# Altium footprint library comp.PcbLib: 14 footprints
Each footprint in its own frame and in the unit in brackets; x right, y up, seen from the top. Pads: shape width x height; smd on the part's side, far side on the other; paste and mask are expansions set on the pad; w line width, h text height; cw(c..) or ccw(c..) is an arc to the next point about the centre after c.
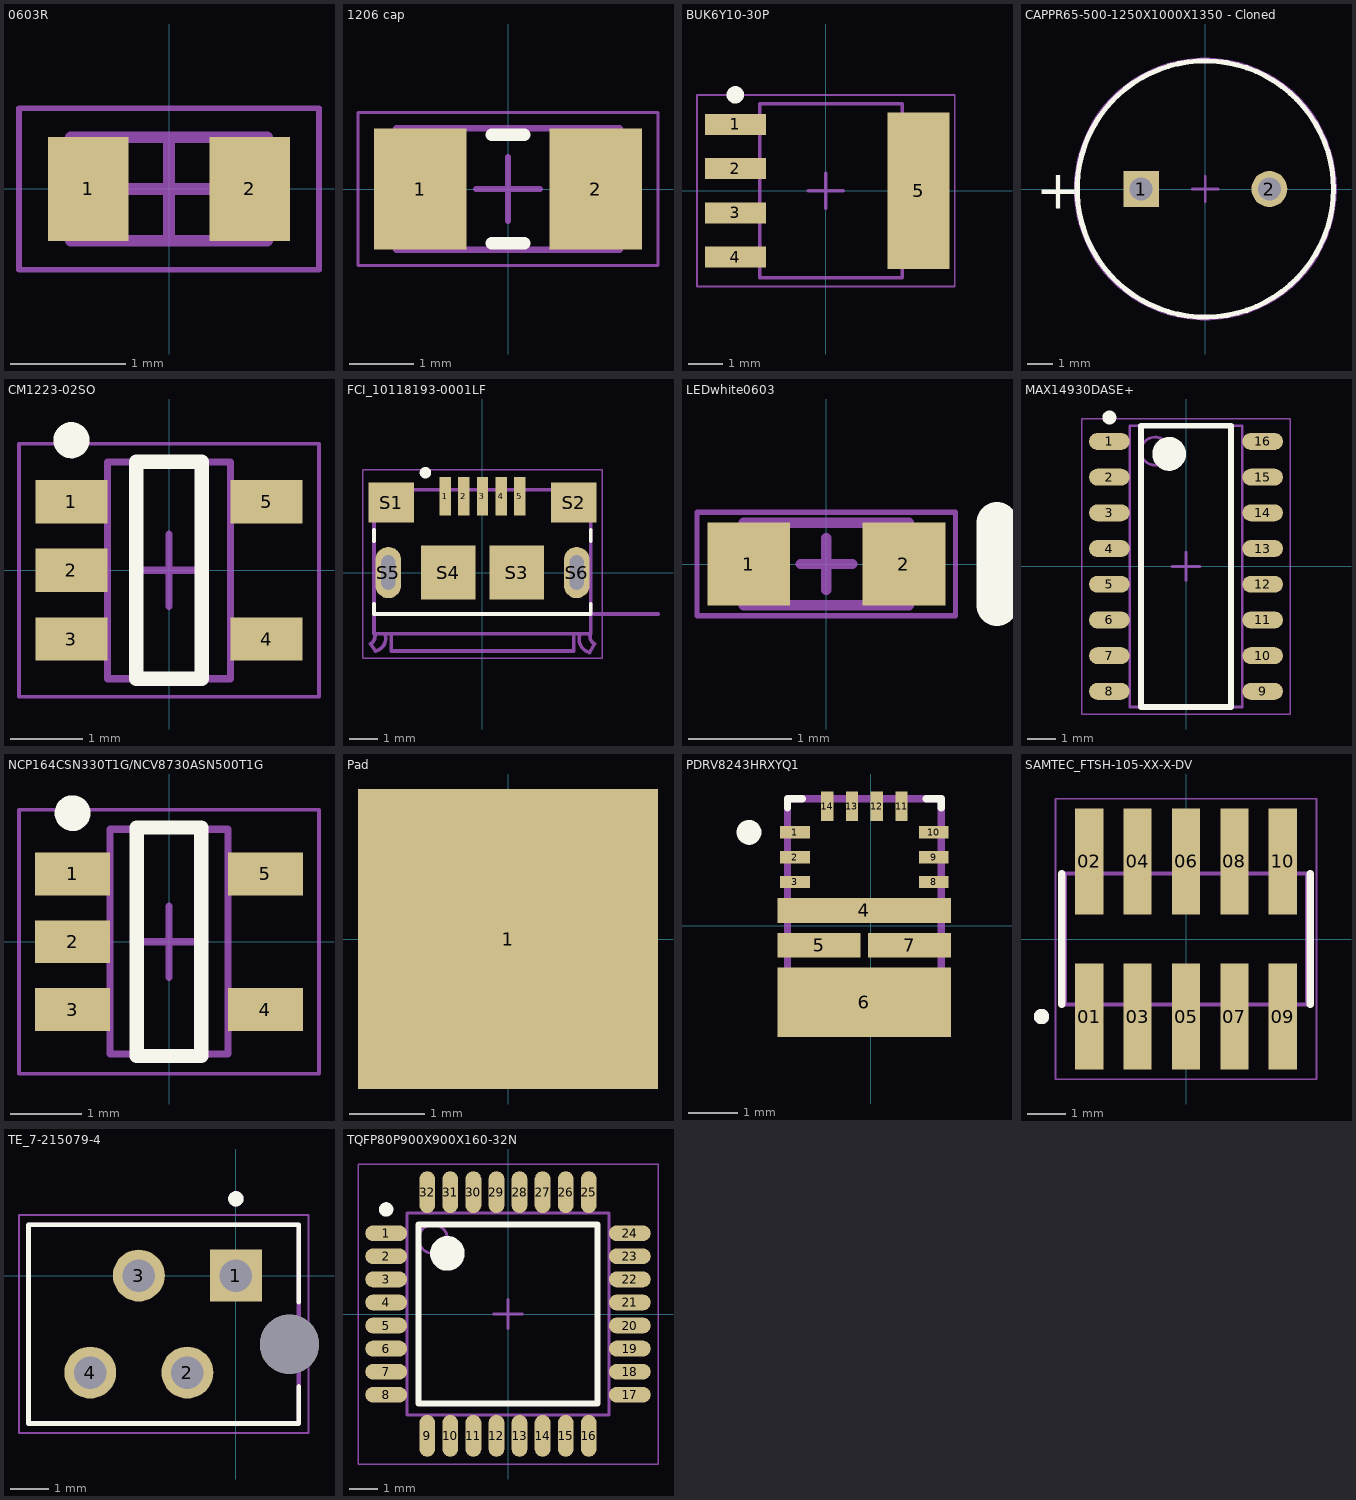
[diagram p0: the footprints below, top view; thin cyan lines are the x and y axes]

## 0603R [mm]
pads (2):
  rect 0.7x0.9 smd: 1(-0.7,0) 2(0.7,0)
Mechanical 13:
  lines w0.1: -0.85,-0.45 0.85,-0.45 0.85,0.45 -0.85,0.45 -0.85,-0.45
Mechanical 15:
  lines w0.05: -1.3,-0.7 1.3,-0.7 1.3,0.7 -1.3,0.7 -1.3,-0.7
  lines w0.1: -0.45,0 0.45,0 ; 0,-0.45 0,0.45
3D body "RESC1608X06N.step": height 0.55, standoff 0, extent -0.85,-0.45 0.85,0.45

## 1206 cap [mm] "Chip Capacitor, 2-Leads, Body 3.5x1.9mm, IPC Medium Density"
height 1.9
pads (2):
  rect 1.45x1.9 smd: 1(-1.375,0) 2(1.375,0)
Top Overlay:
  lines w0.2: -0.25,-0.85 0.25,-0.85 ; -0.25,0.85 0.25,0.85
Mechanical 13:
  lines w0.1: -1.75,-0.95 1.75,-0.95 1.75,0.95 -1.75,0.95 -1.75,-0.95
Mechanical 15:
  lines w0.05: -2.35,-1.2 2.35,-1.2 2.35,1.2 -2.35,1.2 -2.35,-1.2
  lines w0.1: -0.5,0 0.5,0 ; 0,-0.5 0,0.5
3D body "CAPC3216X19N.step": height 1.9, standoff 0, extent -1.75,-0.95 1.75,0.95

## BUK6Y10-30P [mm] "TO, 5-Pads, Body 5,15x5,86mm (max), IPC Medium Density"
height 1.2
pads (5):
  rect 1.75x0.6 smd: 1(-2.6,1.905) 2(-2.6,0.635) 3(-2.6,-0.635) 4(-2.6,-1.905)
  rect 1.78x4.5 smd: 5(2.667,0)
Top Overlay:
  circle w0.25: c-2.6,2.755 r0.125
Top Assembly:
  lines w0.1: -1.9,-2.5 2.2,-2.5 2.2,2.5 -1.9,2.5 -1.9,-2.5
Top Courtyard:
  lines w0.05: -3.7,-2.75 3.7,-2.75 3.7,2.75 -3.7,2.75 -3.7,-2.75
  lines w0.1: -0.5,0 0.5,0 ; 0,-0.5 0,0.5
3D body "SOT669.step": height 0.75, standoff -0.25, extent -3.068,-2.405 3.042,2.405

## CAPPR65-500-1250X1000X1350 - Cloned [mm] "THD, 2-Leads, Dia 10mm, Body Length 12.5mm"
height 13.5
pads (2):
  rect 1.4x1.4 hole 0.9: 1(-2.5,0)
  round 1.4 hole 0.9: 2(2.5,0)
Top Overlay:
  circle w0.2: c0,0 r5
  text "+" at -6.604,-0.762 h1.5
Mechanical 13:
  circle w0.1: c0,0 r5
Mechanical 15:
  circle w0.05: c0,0 r5.1
  lines w0.1: -0.5,0 0.5,0 ; 0,-0.5 0,0.5
3D body: height 0, standoff -14, extent 2.202,-0.299 2.8,0.3
3D body: height 0, standoff -17, extent -2.797,-0.299 -2.2,0.3
3D body: height 13.5, standoff 0, extent -4.499,-4.499 4.499,4.499
3D body: height 13.49, standoff 0.01, extent -4.949,-4.949 4.949,4.949
3D body: height 13.5, standoff 0, extent -4.999,-4.999 4.835,4.999

## CM1223-02SO [mm] "diode array"
height 1.45
pads (5):
  rect 1x0.6 smd: 1(-1.35,0.95) 2(-1.35,0) 3(-1.35,-0.95) 4(1.35,-0.95) 5(1.35,0.95)
Top Overlay:
  circle w0.25: c-1.35,1.8 r0.125
  lines w0.2: -0.45,-1.5 -0.45,1.5 0.45,1.5 0.45,-1.5 -0.45,-1.5
Mechanical 13:
  lines w0.1: -0.85,-1.5 0.85,-1.5 0.85,1.5 -0.85,1.5 -0.85,-1.5
Mechanical 15:
  lines w0.05: -2.075,-1.75 2.075,-1.75 2.075,1.75 -2.075,1.75 -2.075,-1.75
  lines w0.1: -0.5,0 0.5,0 ; 0,-0.5 0,0.5
3D body "SOT95P280X145-5N.step": height 1.45, standoff 0, extent -1.45,-1.5 1.45,1.5

## FCI_10118193-0001LF [mm]
pads (13):
  rect 0.4x1.35 smd: 1(-1.3,2.675) 2(-0.65,2.675) 3(0,2.675) 4(0.65,2.675) 5(1.3,2.675)
  rect 1.6x1.4 smd: S1(-3.2,2.45) S2(3.2,2.45)
  rect 1.9x1.9 smd: S3(1.2,0) S4(-1.2,0)
  oval 0.9x1.8 hole 0.5 slot 1.2 at 90 deg: S5(-3.3,0) S6(3.3,0)
  round 0.5 hole 0.5 unplated: ""(-3.3,0) ""(3.3,0)
Top Overlay:
  circle w0.2: c-2,3.5 r0.1
  lines w0.127: -3.8,-1.45 3.8,-1.45 ; -3.8,-1.4 -3.8,-1.1 ; -3.8,1.1 -3.8,1.5 ; 3.8,-1.4 3.8,-1.1 ; 3.8,1.1 3.8,1.5
Mechanical 13:
  lines w0.127: -3.93,-2.5 -3.75,-2.75 ; -3.93,-2.5 ccw(c-4.065,-2.235) -3.8,-2.1 ; -3.746,-2.749 ccw(c-3.85,-2.3) -3.401,-2.196 ; -3.2,-2.2 -3.2,-2.75 3.2,-2.75 3.2,-2.2 ; 3.401,-2.198 ccw(c3.875,-2.325) 3.748,-2.799 ; 3.75,-2.8 3.93,-2.5 ; 3.8,-2.1 ccw(c4.065,-2.235) 3.93,-2.5 ; 6.15,-1.45 3.8,-1.45 ; -3.8,-2.1 -3.8,-2.15 3.8,-2.15 3.8,-1.45 ; -3.8,-2.1 -3.8,2.9 3.8,2.9 3.8,-1.45
  text "PCB END" at 4.75,-1.3 h0.41
Mechanical 15:
  lines w0.05: -4.2,-3 -4.2,3.6 4.2,3.6 4.2,-3 -4.2,-3

## LEDwhite0603 [mm]
pads (2):
  rect 0.8x0.8 smd: 1(-0.75,0) 2(0.75,0)
Top Overlay:
  lines w0.4: 1.65,-0.4 1.65,0.4
Mechanical 13:
  lines w0.1: -0.55,-0.4 -0.55,0.4 ; 0.55,-0.4 0.55,0.4 ; -0.8,-0.4 0.8,-0.4 0.8,0.4 -0.8,0.4 -0.8,-0.4
Mechanical 15:
  lines w0.05: -1.25,-0.5 -1.25,0.5 1.25,0.5 1.25,-0.5 -1.25,-0.5
  lines w0.1: -0.25,0 0.25,0 ; 0,-0.25 0,0.25
3D body: height 0.28, standoff 0, extent -0.8,-0.4 0.8,0.4
3D body: height 0.65, standoff 0.28, extent -0.55,-0.4 0.55,0.4

## MAX14930DASE+ [mm] "SOIC, 16-Leads, Body 9,90x3,90mm, Pitch 1,27mm, IPC Medium Density"
height 1.75
pads (16):
  oval 1.45x0.6 smd: 1(-2.725,4.445) 2(-2.725,3.175) 3(-2.725,1.905) 4(-2.725,0.635) 5(-2.725,-0.635) 6(-2.725,-1.905) 7(-2.725,-3.175) 8(-2.725,-4.445) 9(2.725,-4.445) 10(2.725,-3.175) 11(2.725,-1.905) 12(2.725,-0.635) 13(2.725,0.635) 14(2.725,1.905) 15(2.725,3.175) 16(2.725,4.445)
Top Overlay:
  circle w0.6: c-0.6,4 r0.3
  circle w0.25: c-2.725,5.295 r0.125
  lines w0.2: -1.6,-5 1.6,-5 1.6,5 -1.6,5 -1.6,-5
Mechanical 13:
  circle w0.1: c-1.1,4.1 r0.5
  lines w0.1: -2,-5 2,-5 2,5 -2,5 -2,-5
Mechanical 15:
  lines w0.05: -3.7,-5.25 3.7,-5.25 3.7,5.25 -3.7,5.25 -3.7,-5.25
  lines w0.1: -0.5,0 0.5,0 ; 0,-0.5 0,0.5
3D body "MAX14930DASE+.step": height 1.75, standoff 0, extent -3,-5 3,5

## NCP164CSN330T1G/NCV8730ASN500T1G [mm] "voltage regulators"
height 1.1
pads (5):
  rect 1.05x0.6 smd: 1(-1.35,0.95) 2(-1.35,0) 3(-1.35,-0.95) 4(1.35,-0.95) 5(1.35,0.95)
Top Overlay:
  circle w0.25: c-1.35,1.8 r0.125
  lines w0.2: -0.45,-1.6 -0.45,1.6 0.45,1.6 0.45,-1.6 -0.45,-1.6
Mechanical 13:
  lines w0.1: -0.825,-1.575 0.825,-1.575 0.825,1.575 -0.825,1.575 -0.825,-1.575
Mechanical 15:
  lines w0.05: -2.1,-1.85 2.1,-1.85 2.1,1.85 -2.1,1.85 -2.1,-1.85
  lines w0.1: -0.5,0 0.5,0 ; 0,-0.5 0,0.5
3D body "SOT95P275X110-5N.step": height 1.1, standoff 0, extent -1.5,-1.575 1.5,1.575

## Pad [mm]
pads (1):
  rect 4x4 smd: 1(0,0)

## PDRV8243HRXYQ1 [mm]
pads (14):
  rect 0.6x0.25 smd paste+0 mask-0.292: 1(-1.527,1.879) 2(-1.527,1.379) 3(-1.527,0.879) 8(1.273,0.879) 9(1.273,1.379) 10(1.273,1.879)
  rect 3.5x0.5 smd paste-1.737 mask-1.74: 4(-0.127,0.304)
  rect 1.675x0.5 smd paste-0.825 mask-0.826: 5(-1.04,-0.396) 7(0.786,-0.396)
  rect 3.5x1.4 smd paste-1.737 mask-1.74: 6(-0.127,-1.546)
  rect 0.25x0.6 smd paste+0 mask-0.292: 11(0.623,2.404) 12(0.123,2.404) 13(-0.377,2.404) 14(-0.877,2.404)
Top Overlay:
  circle w0.25: c-2.452,1.879 r0.125
  lines w0.15: -1.677,2.379 -1.677,2.554 -1.377,2.554 ; 1.123,2.554 1.423,2.554 1.423,2.379
Top Paste:
  region: -1.827,0.229 -1.827,0.379 -1.777,0.429 -1.477,0.429 -1.477,0.504 -0.302,0.504 -0.252,0.454 -0.252,0.154 -0.302,0.104 -1.477,0.104 -1.477,0.179 -1.777,0.179
  region: 1.573,0.379 1.573,0.229 1.523,0.179 1.223,0.179 1.223,0.104 0.048,0.104 -0.002,0.154 -0.002,0.454 0.048,0.504 1.223,0.504 1.223,0.429 1.523,0.429
  region: -1.777,-0.521 -1.827,-0.471 -1.827,-0.321 -1.777,-0.271 -1.477,-0.271 -1.477,-0.196 -0.302,-0.196 -0.252,-0.246 -0.252,-0.546 -0.302,-0.596 -1.477,-0.596 -1.477,-0.521
  region: 1.523,-0.271 1.573,-0.321 1.573,-0.471 1.523,-0.521 1.223,-0.521 1.223,-0.596 0.048,-0.596 -0.002,-0.546 -0.002,-0.246 0.048,-0.196 1.223,-0.196 1.223,-0.271
  region: -1.777,-1.221 -1.827,-1.171 -1.827,-1.021 -1.777,-0.971 -1.477,-0.971 -1.477,-0.896 1.223,-0.896 1.223,-0.971 1.523,-0.971 1.573,-1.021 1.573,-1.171 1.523,-1.221 1.223,-1.221 1.223,-1.296 0.748,-1.296 0.748,-2.146 0.698,-2.196 0.548,-2.196 0.498,-2.146 0.498,-1.296 0.248,-1.296 0.248,-2.146 0.198,-2.196 0.048,-2.196 -0.002,-2.146 -0.002,-1.296 -0.252,-1.296 -0.252,-2.146 -0.302,-2.196 -0.452,-2.196 -0.502,-2.146 -0.502,-1.296 -0.752,-1.296 -0.752,-2.146 -0.802,-2.196 -0.952,-2.196 -1.002,-2.146 -1.002,-1.296 -1.477,-1.296 -1.477,-1.221
Top Solder:
  drawing of 15 lines, arcs and shapes, not listed
Mechanical 13:
  lines w0.15: -1.677,-2.046 1.423,-2.046 1.423,2.554 -1.677,2.554 -1.677,-2.046

## SAMTEC_FTSH-105-XX-X-DV [mm]
pads (10):
  rect 0.74x2.79 smd: 01(-2.54,-2.035) 02(-2.54,2.035) 03(-1.27,-2.035) 04(-1.27,2.035) 05(0,-2.035) 06(0,2.035) 07(1.27,-2.035) 08(1.27,2.035) 09(2.54,-2.035) 10(2.54,2.035)
Top Overlay:
  circle w0.2: c-3.79,-2.035 r0.1
  lines w0.2: -3.26,-1.715 -3.26,1.715 ; 3.26,-1.715 3.26,1.715
Mechanical 13:
  circle w0.2: c-3.79,-2.035 r0.1
  lines w0.1: -3.175,-1.715 -3.175,1.715 3.175,1.715 3.175,-1.715 -3.175,-1.715
Mechanical 15:
  lines w0.05: -3.425,-3.68 -3.425,3.68 3.425,3.68 3.425,-3.68 -3.425,-3.68
3D body "FTSH-105-01-L-DV-K.stp": height 5.71, standoff -0.41, extent -3.175,-2.794 3.175,3.048

## TE_7-215079-4 [mm]
pads (5):
  rect 1.358x1.358 hole 0.85: 1(0,0)
  round 1.358 hole 0.85: 2(-1.27,-2.54) 3(-2.54,0) 4(-3.81,-2.54)
  round 1.55 hole 1.55 unplated: ""(1.4,-1.8)
Top Overlay:
  circle w0.2: c0,2.008 r0.1
  lines w0.127: 1.645,-2.9 1.645,-3.87 -5.425,-3.87 -5.425,1.33 1.645,1.33 1.645,-0.7
Mechanical 13:
  circle w0.2: c0,2.008 r0.1
  lines w0.127: -5.425,-3.87 -5.425,1.33 1.645,1.33 1.645,-3.87 -5.425,-3.87
Mechanical 15:
  lines w0.05: -5.675,-4.12 -5.675,1.58 1.895,1.58 1.895,-4.12 -5.675,-4.12

## TQFP80P900X900X160-32N [mm] "TQFP, 32-Leads, Body 7,00x7,00mm, Pitch 0,80mm, IPC Medium Density"
height 1.6
pads (32):
  oval 1.45x0.55 smd: 1(-4.225,2.8) 2(-4.225,2) 3(-4.225,1.2) 4(-4.225,0.4) 5(-4.225,-0.4) 6(-4.225,-1.2) 7(-4.225,-2) 8(-4.225,-2.8) 17(4.225,-2.8) 18(4.225,-2) 19(4.225,-1.2) 20(4.225,-0.4) 21(4.225,0.4) 22(4.225,1.2) 23(4.225,2) 24(4.225,2.8)
  oval 0.55x1.45 smd: 9(-2.8,-4.225) 10(-2,-4.225) 11(-1.2,-4.225) 12(-0.4,-4.225) 13(0.4,-4.225) 14(1.2,-4.225) 15(2,-4.225) 16(2.8,-4.225) 25(2.8,4.225) 26(2,4.225) 27(1.2,4.225) 28(0.4,4.225) 29(-0.4,4.225) 30(-1.2,4.225) 31(-2,4.225) 32(-2.8,4.225)
Top Overlay:
  circle w0.25: c-4.225,3.625 r0.125
  circle w0.6: c-2.1,2.1 r0.3
  lines w0.2: -3.1,-3.1 -3.1,3.1 3.1,3.1 3.1,-3.1 -3.1,-3.1
Mechanical 13:
  circle w0.1: c-2.6,2.6 r0.5
  lines w0.1: -3.5,-3.5 -3.5,3.5 3.5,3.5 3.5,-3.5 -3.5,-3.5
Mechanical 15:
  lines w0.05: -5.2,-5.2 -5.2,5.2 5.2,5.2 5.2,-5.2 -5.2,-5.2
  lines w0.1: -0.5,0 0.5,0 ; 0,-0.5 0,0.5
3D body "TQFP80P900X900X160-32N.step": height 1.6, standoff 0, extent -4.5,-4.5 4.5,4.5